# EAGLE library part ATSAML21E18B-AU (library KVB-MCUs)
ARM® Cortex®-M0+ SAM L21E Microcontroller IC 32-Bit 48MHz 256KB (256K x 8) FLASH 32-TQFP (7x7)
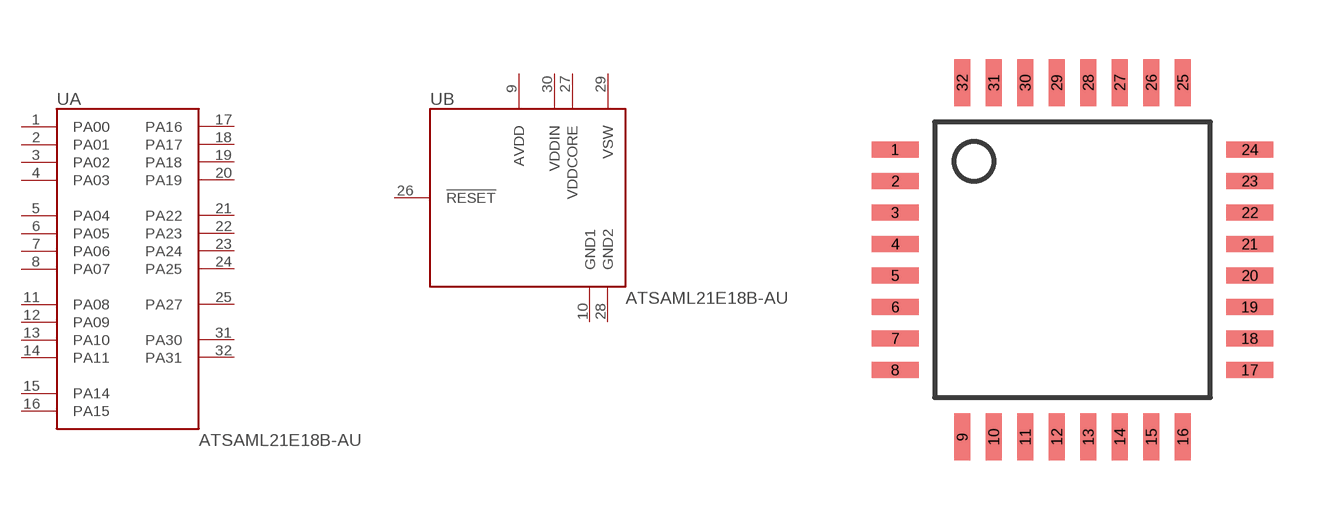
[diagram p2: symbol with the pads of ATSAML21E18-AU; footprint ATSAML21E18-AU]

Designator prefix U; gates A=ATSAML21E-A B=ATSAML21E-B

## ATSAML21E18B-AU (MAN-PART_NUM: ATSAML21E18B-AUT; MANUFACTURER: Atmel)  [ATSAML21E18-AU]
1  A:PA00
2  A:PA01
3  A:PA02
4  A:PA03
5  A:PA04
6  A:PA05
7  A:PA06
8  A:PA07
9  B:AVDD
10  B:GND1
11  A:PA08
12  A:PA09
13  A:PA10
14  A:PA11
15  A:PA14
16  A:PA15
17  A:PA16
18  A:PA17
19  A:PA18
20  A:PA19
21  A:PA22
22  A:PA23
23  A:PA24
24  A:PA25
25  A:PA27
26  B:!RESET
27  B:VDDCORE
28  B:GND2
29  B:VSW
30  B:VDDIN
31  A:PA30
32  A:PA31

## Footprint ATSAML21E18-AU (pad centres in mm)
smd 1.2 x 0.4: 1 -4.5,2.8; 2 -4.5,2; 3 -4.5,1.2; 4 -4.5,0.4; 5 -4.5,-0.4; 6 -4.5,-1.2; 7 -4.5,-2; 8 -4.5,-2.8; 17 4.5,-2.8; 18 4.5,-2; 19 4.5,-1.2; 20 4.5,-0.4; 21 4.5,0.4; 22 4.5,1.2; 23 4.5,2; 24 4.5,2.8
smd 0.4 x 1.2: 9 -2.8,-4.5; 10 -2,-4.5; 11 -1.2,-4.5; 12 -0.4,-4.5; 13 0.4,-4.5; 14 1.2,-4.5; 15 2,-4.5; 16 2.8,-4.5; 25 2.8,4.5; 26 2,4.5; 27 1.2,4.5; 28 0.4,4.5; 29 -0.4,4.5; 30 -1.2,4.5; 31 -2,4.5; 32 -2.8,4.5